# EAGLE library part IRS25606 (library ICs)
High voltage, high speed MOSFET and IGBT gate driver. Induvidual high/low side inputs.
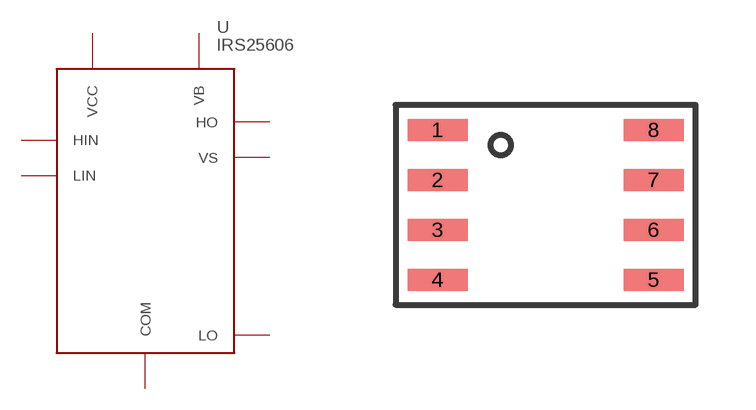
[diagram p32: symbol with the pads of SO8; footprint SO8]

Designator prefix U

## IRS25606SPBF  [SO8]
1  VCC
2  HIN
3  LIN
4  COM
5  LO
6  VS
7  HO
8  VB

## Footprint SO8 (pad centres in mm)
smd 1.5 x 0.55: 1 -2.7,1.875; 2 -2.7,0.625; 3 -2.7,-0.625; 4 -2.7,-1.875; 5 2.7,-1.875; 6 2.7,-0.625; 7 2.7,0.625; 8 2.7,1.875